# Altium schematic symbol library Transistors Through Hole.SchLib: 2 symbols
Pins are listed as number, name and electrical type; pins without a type are passive.

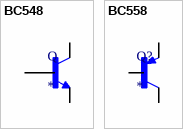
[diagram p0: symbols BC548 to BC558]

## BC548
designator Q
MP: BC548; MF: ON Semiconductor; DigiKey-Purchase-URL: https://snapeda.com/shop?store=DigiKey&id=2007035; Availability: Warning; Package: TO-92 ON Semiconductor; Value: *; SnapEDA_Link: https://www.snapeda.com/parts/BC548/ON%20Semiconductor/view-part/2007035/?ref=snap; Price: None
footprint bc548
pins: 1 C, 2 B, 3 E

## BC558
designator Q?
MP: BC558; MF: ON; Price: None; Availability: In Stock; Package: TO-226-3 Diotec Semiconductor; SnapEDA_Link: https://www.snapeda.com/parts/BC558/Onsemi/view-part/?ref=snap; Check_prices: https://www.snapeda.com/parts/BC558/Onsemi/view-part/?ref=eda; Value: *; Purchase-URL: https://pricing.snapeda.com/search/part/BC558/?ref=eda
footprint BC558
pins: 1 C, 2 B, 3 E